# Altium footprint library SON50P300X400X80-15N-D.PcbLib: 1 footprints
Each footprint in its own frame and in the unit in brackets; x right, y up, seen from the top. Pads: shape width x height; smd on the part's side, far side on the other; paste and mask are expansions set on the pad; w line width, h text height; cw(c..) or ccw(c..) is an arc to the next point about the centre after c.
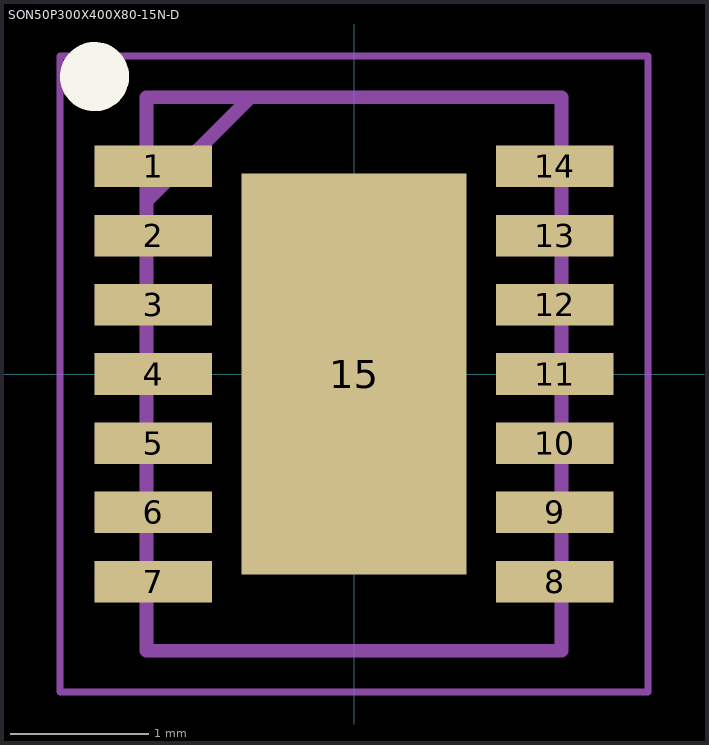
[diagram p0: the footprint, top view; thin cyan lines are the x and y axes]

## SON50P300X400X80-15N-D [mm]
pads (15):
  rect 0.85x0.3 smd: 1(-1.45,1.5) 2(-1.45,1) 3(-1.45,0.5) 4(-1.45,0) 5(-1.45,-0.5) 6(-1.45,-1) 7(-1.45,-1.5) 8(1.45,-1.5) 9(1.45,-1) 10(1.45,-0.5) 11(1.45,0) 12(1.45,0.5) 13(1.45,1) 14(1.45,1.5)
  rect 1.63x2.9 smd: 15(0,0)
Top Overlay:
  circle w0.25: c-1.875,2.15 r0.125
Mechanical 15:
  lines w0.1: -1.5,1.25 -0.75,2 ; -1.5,-2 1.5,-2 1.5,2 -1.5,2 -1.5,-2
Mechanical 20:
  lines w0.05: -2.125,-2.3 2.125,-2.3 2.125,2.3 -2.125,2.3 -2.125,-2.3